# EAGLE library part MPU-6050 (library MPU-6050)
IMUs - Inertial Measurement Units 6-Axis MEMS MotionTracking Device with DMP Source: Datasheet <https://product.tdk.com/system/files/dam/doc/product/sensor/mortion-inertial/imu/data_sheet/mpu-6000-datasheet1.pdf>
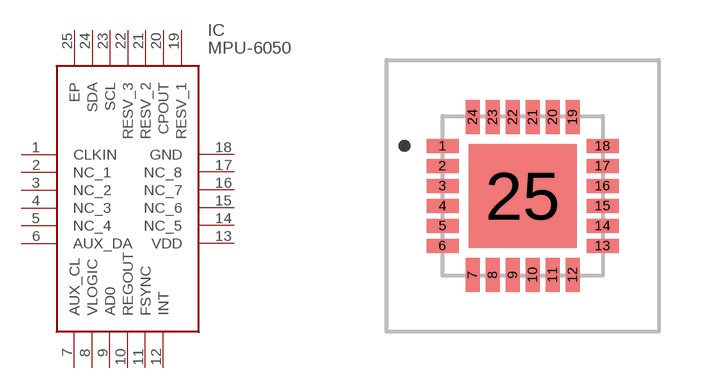
[diagram p0: symbol with the pads of MPU6050; footprint MPU6050]

Designator prefix IC

## MPU-6050 (Arrow_Part_Number: MPU-6050; Arrow_Price-Stock: https://www.arrow.com/en/products/mpu-6050/invensense?region=nac; Description: IMUs - Inertial Measurement Units 6-Axis MEMS MotionTracking Device with DMP; Height: 0.95mm; Manufacturer_Name: TDK; Manufacturer_Part_Number: MPU-6050; Mouser_Part_Number: 410-MPU-6050; Mouser_Price-Stock: https://www.mouser.co.uk/ProductDetail/TDK-InvenSense/MPU-6050?qs=u4fy%2FsgLU9O14B5JgyQFvg%3D%3D)  [MPU6050]
1  CLKIN
2  NC_1
3  NC_2
4  NC_3
5  NC_4
6  AUX_DA
7  AUX_CL
8  VLOGIC
9  AD0
10  REGOUT
11  FSYNC
12  INT
13  VDD
14  NC_5
15  NC_6
16  NC_7
17  NC_8
18  GND
19  RESV_1
20  CPOUT
21  RESV_2
22  RESV_3
23  SCL
24  SDA
25  EP

## Footprint MPU6050 (pad centres in mm)
MPU-6050-4
smd 0.8 x 0.35: 1 -2,1.25; 2 -2,0.75; 3 -2,0.25; 4 -2,-0.25; 5 -2,-0.75; 6 -2,-1.25; 13 2,-1.25; 14 2,-0.75; 15 2,-0.25; 16 2,0.25; 17 2,0.75; 18 2,1.25
smd 0.35 x 0.85: 7 -1.25,-1.975; 8 -0.75,-1.975; 9 -0.25,-1.975; 10 0.25,-1.975; 11 0.75,-1.975; 12 1.25,-1.975; 19 1.25,1.975; 20 0.75,1.975; 21 0.25,1.975; 22 -0.25,1.975; 23 -0.75,1.975; 24 -1.25,1.975
smd 2.7 x 2.6: 25 0,0